# Altium schematic symbol library Connector-XH.SchLib: 11 symbols
Pins are listed as number, name and electrical type; pins without a type are passive.

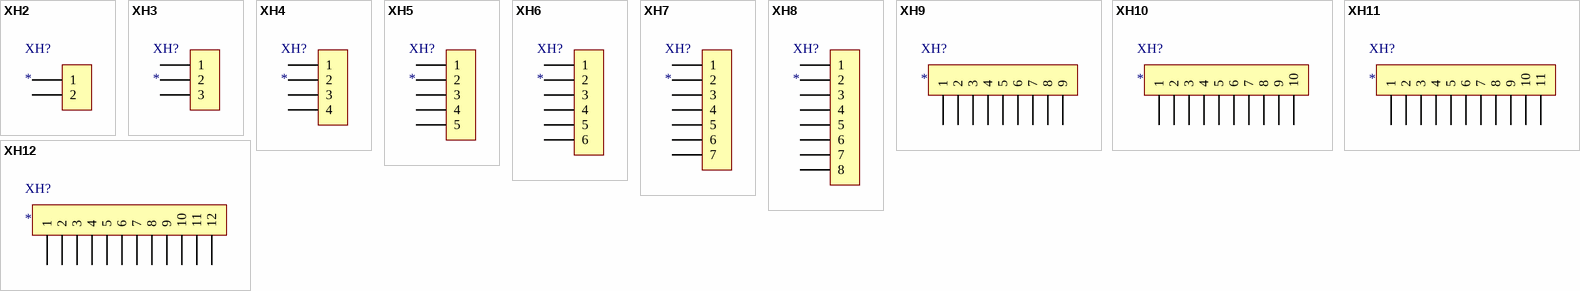
[diagram p0: symbols XH2 to XH12]

## XH2
designator XH?
footprint XH2/2.54mm/90
footprint XH2/2.54mm/180
pins: 1, 2

## XH3
designator XH?
footprint XH3/2.54mm/90
footprint XH3/2.54mm/180
pins: 1, 2, 3

## XH4
designator XH?
footprint XH4/2.54mm/90
footprint XH4/2.54mm/180
pins: 1, 2, 3, 4

## XH5
designator XH?
footprint XH5/2.54mm/90
footprint XH5/2.54mm/180
pins: 1, 2, 3, 4, 5

## XH6
designator XH?
footprint XH6/2.54mm/90
footprint XH6/2.54mm/180
pins: 1, 2, 3, 4, 5, 6

## XH7
designator XH?
footprint XH7/2.54mm/90
footprint XH7/2.54mm/180
pins: 1, 2, 3, 4, 5, 6, 7

## XH8
designator XH?
footprint XH8/2.54mm/90
footprint XH8/2.54mm/180
pins: 1, 2, 3, 4, 5, 6, 7, 8

## XH9
designator XH?
footprint XH9/2.54mm/90
footprint XH9/2.54mm/180
pins: 1, 2, 3, 4, 5, 6, 7, 8, 9

## XH10
designator XH?
footprint XH10/2.54mm/90
footprint XH10/2.54mm/180
pins: 1, 2, 3, 4, 5, 6, 7, 8, 9, 10

## XH11
designator XH?
footprint XH11/2.54mm/90
footprint XH11/2.54mm/180
pins: 1, 2, 3, 4, 5, 6, 7, 8, 9, 10, 11

## XH12
designator XH?
footprint XH12/2.54mm/90
footprint XH12/2.54mm/180
pins: 1, 2, 3, 4, 5, 6, 7, 8, 9, 10, 11, 12